# Altium schematic symbol library LPDDR_32Mx16.Schlib: 1 symbol
Pins are listed as number, name and electrical type; pins without a type are passive.

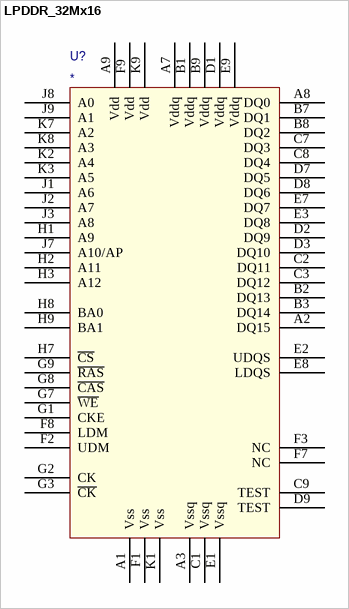
[diagram p0: symbol LPDDR_32Mx16]

## LPDDR_32Mx16
designator U?
pins: A1 Vss, A2 DQ15, A3 Vssq, A7 Vddq, A8 DQ0, A9 Vdd, B1 Vddq, B2 DQ13, B3 DQ14, B7 DQ1, B8 DQ2, B9 Vddq, C1 Vssq, C2 DQ11, C3 DQ12, C7 DQ3, C8 DQ4, C9 TEST, D1 Vddq, D2 DQ9, D3 DQ10, D7 DQ5, D8 DQ6, D9 TEST, E1 Vssq, E2 UDQS, E3 DQ8, E7 DQ7, E8 LDQS, E9 Vddq, F1 Vss, F2 UDM, F3 NC, F7 NC, F8 LDM, F9 Vdd, G1 CKE, G2 CK, G3 ~{CK}, G7 ~{WE}, G8 ~{CAS}, G9 ~{RAS}, H1 A9, H2 A11, H3 A12, H7 ~{CS}, H8 BA0, H9 BA1, J1 A6, J2 A7, J3 A8, J7 A10/AP, J8 A0, J9 A1, K1 Vss, K2 A4, K3 A5, K7 A2, K8 A3, K9 Vdd